# Altium schematic symbol library Relay.SchLib: 4 symbols
Pins are listed as number, name and electrical type; pins without a type are passive.

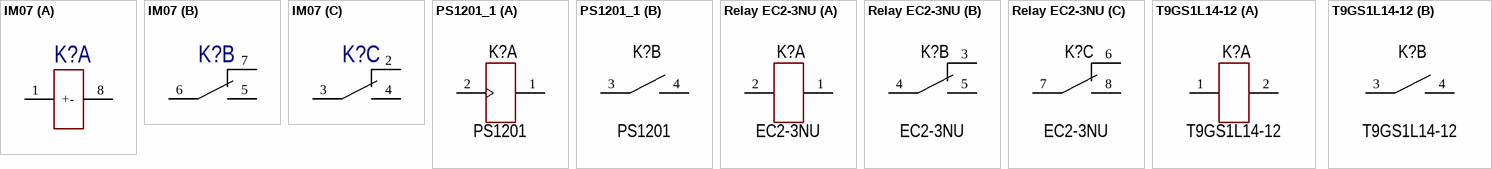
[diagram p0: symbols IM07 to T9GS1L14-12]

## IM07
designator K?, comment IM07TS 3-1462037-0  (value not drawn)
Signal Relays, 220 VDC Contact Voltage, 250 VAC Contact Voltage, 200 mW Coil Power (DC), Printed Circuit Board, PCB-THT, Axicom IM; Manufacturer: TE CONNECTIVITY; ValueManufacturerPartNumber: IM07TS 3-1462037-0 TE CONNECTIVITY; Model: IM07TS 3-1462037-0; HelpURL: https://www.te.com/usa-en/product-3-1462037-0.html
part A pins: 1 +, 8 -
part B pins: 5, 6, 7
part C pins: 2, 3, 4

## PS1201_1
designator K?, comment PS1201
Manufacturer: IXYS Integrated Circuits Division; Model: PS1201; HelpURL: https://www.digikey.com/product-detail/en/ixys-integrated-circuits-division/PS1201/CLA195-ND/565944; ComponentKind: 1NO
footprint REL: PS1201
part A pins: 1, 2 +
part B pins: 3, 4

## Relay EC2-3NU
designator K?, comment EC2-3NU
Manufacturer: KEMET; Model: EC2-3NU; HelpURL: https://www.digikey.com/product-detail/en/kemet/EC2-3NU/399-11042-5-ND/4291108; ComponentKind: 2NO+2NC
footprint REL: EC2-3NU
part A pins: 1, 2
part B pins: 3, 4, 5
part C pins: 6, 7, 8

## T9GS1L14-12
designator K?
Manufacturer: TE Connectivity; Model: T9GS1L14-12; HelpURL: https://ru.mouser.com/ProductDetail/TE-Connectivity-PB/T9GS1L14-12?qs=sGAEpiMZZMtSzCF3XBhmW8zqjnyn0fexfr02%2fRTEzis%3d; ComponentKind: 1NO
footprint REL: T9GS1
part A pins: 1, 2 +
part B pins: 3, 4